# EAGLE library part M2_M_KEY (library GPLIB_CONN)
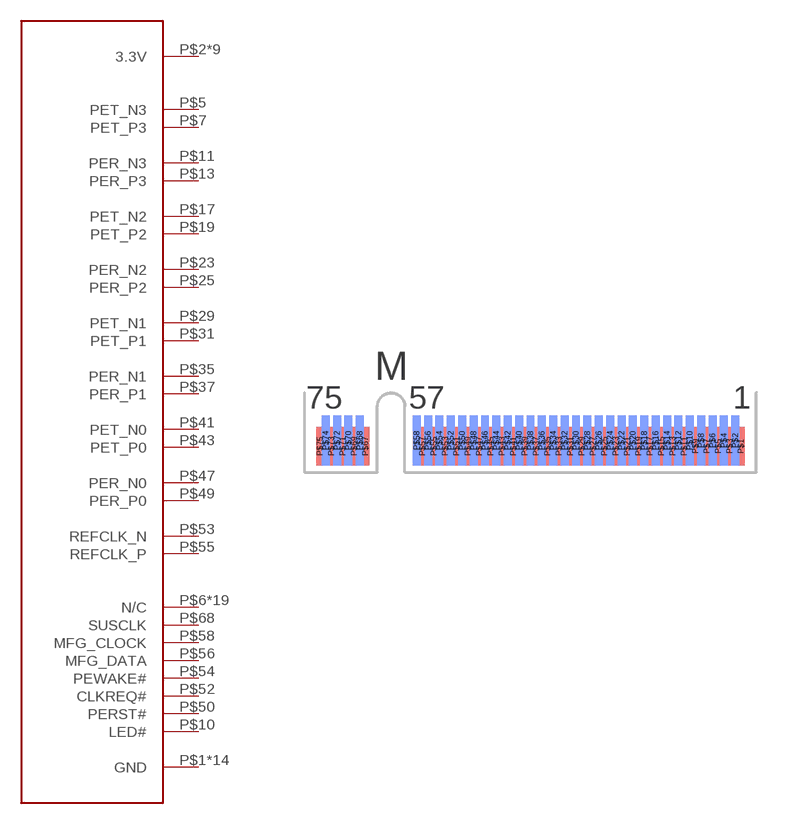
[diagram p37: symbol with the pads of PCB_EDGE_M2_M_KEY; footprint PCB_EDGE_M2_M_KEY]

Designator prefix -

## M2_M_KEY  [PCB_EDGE_M2_M_KEY]
P$1  GND
P$2  3.3V
P$3  GND
P$4  3.3V
P$5  PET_N3
P$6  N/C
P$7  PET_P3
P$8  N/C
P$9  GND
P$10  LED#
P$11  PER_N3
P$12  3.3V
P$13  PER_P3
P$14  3.3V
P$15  GND
P$16  3.3V
P$17  PET_N2
P$18  3.3V
P$19  PET_P2
P$20  N/C
P$21  GND
P$22  N/C
P$23  PER_N2
P$24  N/C
P$25  PER_P2
P$26  N/C
P$27  GND
P$28  N/C
P$29  PET_N1
P$30  N/C
P$31  PET_P1
P$32  N/C
P$33  GND
P$34  N/C
P$35  PER_N1
P$36  N/C
P$37  PER_P1
P$38  N/C
P$39  GND
P$40  N/C
P$41  PET_N0
P$42  N/C
P$43  PET_P0
P$44  N/C
P$45  GND
P$46  N/C
P$47  PER_N0
P$48  N/C
P$49  PER_P0
P$50  PERST#
P$51  GND
P$52  CLKREQ#
P$53  REFCLK_N
P$54  PEWAKE#
P$55  REFCLK_P
P$56  MFG_DATA
P$57  GND
P$58  MFG_CLOCK
P$67  N/C
P$68  SUSCLK
P$69  N/C
P$70  3.3V
P$71  GND
P$72  3.3V
P$73  GND
P$74  3.3V
P$75  GND

## Footprint PCB_EDGE_M2_M_KEY (pad centres in mm)
smd 0.35 x 1.7: P$1 9.25,0.15; P$3 8.75,0.15; P$5 8.25,0.15; P$7 7.75,0.15; P$9 7.25,0.15; P$11 6.75,0.15; P$13 6.25,0.15; P$15 5.75,0.15; P$17 5.25,0.15; P$19 4.75,0.15; P$21 4.25,0.15; P$23 3.75,0.15; P$25 3.25,0.15; P$27 2.75,0.15; P$29 2.25,0.15; P$31 1.75,0.15; P$33 1.25,0.15; P$35 0.75,0.15; P$37 0.25,0.15; P$39 -0.25,0.15; P$41 -0.75,0.15; P$43 -1.25,0.15; P$45 -1.75,0.15; P$47 -2.25,0.15; P$49 -2.75,0.15; P$51 -3.25,0.15; P$53 -3.75,0.15; P$55 -4.25,0.15; P$57 -4.75,0.15; P$67 -7.25,0.15; P$69 -7.75,0.15; P$71 -8.25,0.15; P$73 -8.75,0.15; P$75 -9.25,0.15
smd 0.35 x 2.2 bottom: P$2 9,0.4; P$4 8.5,0.4; P$6 8,0.4; P$8 7.5,0.4; P$10 7,0.4; P$12 6.5,0.4; P$14 6,0.4; P$16 5.5,0.4; P$18 5,0.4; P$20 4.5,0.4; P$22 4,0.4; P$24 3.5,0.4; P$26 3,0.4; P$28 2.5,0.4; P$30 2,0.4; P$32 1.5,0.4; P$34 1,0.4; P$36 0.5,0.4; P$38 0,0.4; P$40 -0.5,0.4; P$42 -1,0.4; P$44 -1.5,0.4; P$46 -2,0.4; P$48 -2.5,0.4; P$50 -3,0.4; P$52 -3.5,0.4; P$54 -4,0.4; P$56 -4.5,0.4; P$58 -5,0.4; P$68 -7.5,0.4; P$70 -8,0.4; P$72 -8.5,0.4; P$74 -9,0.4